# EAGLE library part LM3488 (library comms)
Boost, Flyback, SEPIC Regulator Positive Output Step-Up, Step-Up/Step-Down DC-DC Controller IC 8-VSSOP
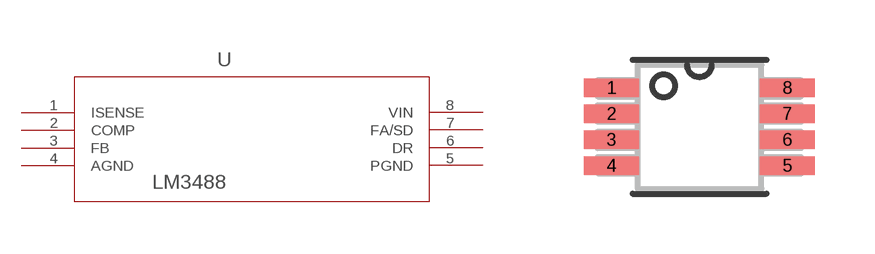
[diagram p1: symbol with the pads of MUA08A; footprint MUA08A]

Designator prefix U

## LM3488MMX/NOPB (MANUFACTURER: Texas Instruments; MANUFACTURER_PN: LM3488MMX/NOPB; VALUE: LM3488MMX/NOPB; VENDOR: Digi-Key; VENDOR_PN: 296-35417-1-ND)  [MUA08A]
1  ISENSE  pas
2  COMP  pas
3  FB  pas
4  AGND  pas
5  PGND  pas
6  DR  pwr
7  FA/SD  pas
8  VIN  in

## Footprint MUA08A (pad centres in mm)
smd 1.372 x 0.457: 1 -2.197,0.975; 2 -2.197,0.325; 3 -2.197,-0.325; 4 -2.197,-0.975; 5 2.197,-0.975; 6 2.197,-0.325; 7 2.197,0.325; 8 2.197,0.975